# EAGLE library part DRV8825(MODULE) (library motor_drivers)
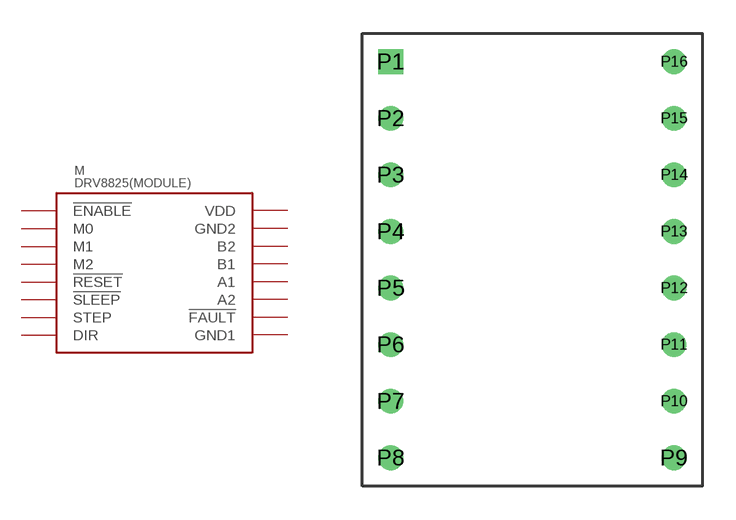
[diagram p4: symbol with the pads of DRV8825(MODULE); footprint DRV8825(MODULE)]

Designator prefix M

## DRV8825(MODULE)  [DRV8825(MODULE)]
P1  !ENABLE
P2  M0
P3  M1
P4  M2
P5  !RESET  in
P6  !SLEEP  in
P7  STEP  in
P8  DIR  in
P9  GND1  pwr
P10  !FAULT
P11  A2
P12  A1
P13  B1
P14  B2
P15  GND2  pwr
P16  VDD  pwr

## Footprint DRV8825(MODULE) (pad centres in mm)
drill 0.6 square: P1 1.27,19.05
drill 0.6: P2 1.27,16.51; P3 1.27,13.97; P4 1.27,11.43; P5 1.27,8.89; P6 1.27,6.35; P7 1.27,3.81; P8 1.27,1.27; P9 13.97,1.27; P10 13.97,3.81; P11 13.97,6.35; P12 13.97,8.89; P13 13.97,11.43; P14 13.97,13.97; P15 13.97,16.51; P16 13.97,19.05